# Altium footprint library Component_Footprints.PcbLib: 38 footprints (part 3 of 3)
Each footprint in its own frame and in the unit in brackets; x right, y up, seen from the top. Pads: shape width x height; smd on the part's side, far side on the other; paste and mask are expansions set on the pad; w line width, h text height; cw(c..) or ccw(c..) is an arc to the next point about the centre after c.
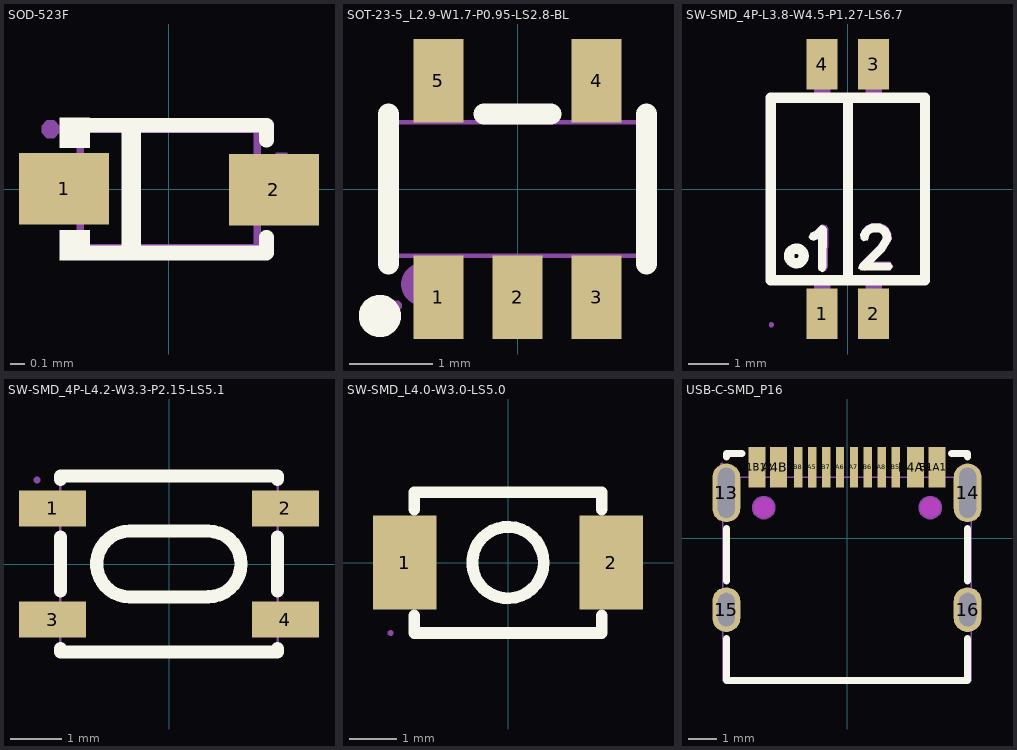
[diagram p2: the footprints below, top view; thin cyan lines are the x and y axes]

## SOD-523F [mil] "L1.2-W0.8-LS1.7-RD"
pads (2):
  rect 24x19 smd: 1(-27.87,0.08) 2(28,-0.19)
Top Overlay:
  region: -21,-11 -25,-11 -29,-11 -29,-19 -21,-19
  region: -21,19 -25,19 -29,19 -29,11 -21,11
  region: -12.51,-16.5 -12.51,16.5 -7.5,16.5 -7.5,-16.5
  lines w3.94: -26,17 26,17 26,13 ; 25.99,-12.84 25.99,-17 -26.01,-17 ; -26.01,-17 -26,-17
Mechanical 6:
  region: 28.5,-7.34 28.5,9.66 31.5,9.66 31.5,-7.34
  region: 22,3.16 38.99,3.16 38.99,0.16 22,0.16
  region: -35.01,4.16 -19,4.16 -19,0.16 -35.01,0.16
Mechanical 15:
  region: 20,-5.85 31.49,-5.85 31.49,5.96 20,5.96
  region: -20,6.1 -31.5,6.1 -31.5,-5.71 -20,-5.71
  region: -29.14,15.91 -29.14,16.89 -30.52,18.27 -32.48,18.27 -33.86,16.89 -33.86,15.91 -33.86,14.93 -32.48,13.55 -30.52,13.55 -29.14,14.93
  lines w2: -23.63,-15.59 -23.63,15.91 23.62,15.91 23.62,-15.59 -23.63,-15.59
3D body "3D_PCB1_2023-02-22.step": height 24.02, standoff 0, extent -31.5,-16 31.5,15.5

## SOT-23-5_L2.9-W1.7-P0.95-LS2.8-BL [mm]
pads (5):
  rect 0.6x1 smd paste+0 mask+0.051: 1(-0.95,-1.3) 2(0,-1.3) 3(0.95,-1.3) 4(0.95,1.3) 5(-0.95,1.3)
Top Overlay:
  circle w0.254: c-1.651,-1.524 r0.127
  lines w0.254: -1.55,-0.9 -1.55,0.9 ; -0.4,0.9 0.4,0.9 ; 1.55,-0.9 1.55,0.9
Mechanical 6:
  circle w0.254: c-1.143,-1.143 r0.127
Mechanical 15:
  region: -1.15,-0.79 -0.75,-0.79 -0.75,-0.96 -1.15,-0.96
  region: -1.15,-0.95 -0.75,-0.95 -0.75,-1.4 -1.15,-1.4
  region: -0.2,-0.79 0.2,-0.79 0.2,-0.96 -0.2,-0.96
  region: -0.2,-0.95 0.2,-0.95 0.2,-1.4 -0.2,-1.4
  region: 0.75,-0.79 1.15,-0.79 1.15,-0.96 0.75,-0.96
  region: 0.75,-0.95 1.15,-0.95 1.15,-1.4 0.75,-1.4
  region: 0.75,0.96 1.15,0.96 1.15,0.79 0.75,0.79
  region: 0.75,1.4 1.15,1.4 1.15,0.95 0.75,0.95
  region: -1.15,0.96 -0.75,0.96 -0.75,0.79 -1.15,0.79
  region: -1.15,1.4 -0.75,1.4 -0.75,0.95 -1.15,0.95
  region: -1.45,-1.34 -1.425,-1.34 -1.39,-1.375 -1.39,-1.425 -1.425,-1.46 -1.45,-1.46 -1.475,-1.46 -1.51,-1.425 -1.51,-1.375 -1.475,-1.34 -1.45,-1.34
  lines w0.051: -1.45,-0.8 -1.45,0.8 1.45,0.8 1.45,-0.8 -1.45,-0.8

## SW-SMD_4P-L3.8-W4.5-P1.27-LS6.7 [mm]
pads (4):
  rect 0.762x1.25 smd paste+0 mask+0.051: 1(-0.635,-3.075) 2(0.635,-3.075) 3(0.635,3.075) 4(-0.635,3.075)
Top Overlay:
  circle w0.254: c-1.27,-1.651 r0.18
  region: -0.815,-1.045 -0.655,-0.885 -0.565,-0.915 -0.525,-0.985 -0.535,-1.945 -0.565,-2.015 -0.635,-2.055 -0.715,-2.005 -0.735,-1.955 -0.735,-1.225 -0.845,-1.275 -0.915,-1.255 -0.965,-1.185 -0.915,-1.085
  region: 0.38,-1.29 0.49,-1.26 0.51,-1.17 0.54,-1.12 0.57,-1.09 0.62,-1.07 0.76,-1.07 0.82,-1.1 0.84,-1.13 0.86,-1.17 0.86,-1.21 0.83,-1.27 0.75,-1.4 0.29,-1.85 0.26,-1.95 0.32,-2.01 0.42,-2.02 1.04,-2.01 1.11,-1.92 1.04,-1.82 0.61,-1.82 0.9,-1.54 1.07,-1.25 1.06,-1.11 0.99,-0.98 0.92,-0.92 0.8,-0.86 0.58,-0.86 0.45,-0.92 0.37,-1.01 0.31,-1.11 0.32,-1.23
  lines w0.254: 0,-2.159 0,2.159 ; -1.9,-2.25 -1.9,2.25 1.9,2.25 1.9,-2.25 -1.9,-2.25
Mechanical 6:
  region: -0.78,-1.03 -0.62,-0.87 -0.53,-0.9 -0.49,-0.97 -0.5,-1.93 -0.53,-2 -0.6,-2.04 -0.68,-1.99 -0.7,-1.94 -0.7,-1.21 -0.81,-1.26 -0.88,-1.24 -0.93,-1.17 -0.88,-1.07
  region: 0.39,-1.27 0.5,-1.24 0.52,-1.15 0.55,-1.1 0.58,-1.07 0.63,-1.05 0.77,-1.05 0.83,-1.08 0.85,-1.11 0.87,-1.15 0.87,-1.19 0.84,-1.25 0.76,-1.38 0.3,-1.83 0.27,-1.93 0.33,-1.99 0.43,-2 1.05,-1.99 1.12,-1.9 1.05,-1.8 0.62,-1.8 0.91,-1.52 1.08,-1.23 1.07,-1.09 1,-0.96 0.93,-0.9 0.81,-0.84 0.59,-0.84 0.46,-0.9 0.38,-0.99 0.32,-1.09 0.33,-1.21
Mechanical 15:
  region: -1.885,-3.29 -1.91,-3.29 -1.945,-3.325 -1.945,-3.375 -1.91,-3.41 -1.885,-3.41 -1.86,-3.41 -1.825,-3.375 -1.825,-3.325 -1.86,-3.29 -1.885,-3.29
  region: 0.435,-2.76 0.435,-2.24 0.835,-2.24 0.835,-2.76
  region: 0.435,-3.35 0.435,-2.75 0.835,-2.75 0.835,-3.35
  region: 0.435,2.24 0.435,2.76 0.835,2.76 0.835,2.24
  region: 0.435,2.75 0.435,3.35 0.835,3.35 0.835,2.75
  region: -0.835,2.24 -0.835,2.76 -0.435,2.76 -0.435,2.24
  region: -0.835,2.75 -0.835,3.35 -0.435,3.35 -0.435,2.75
  region: -0.835,-2.76 -0.835,-2.24 -0.435,-2.24 -0.435,-2.76
  region: -0.835,-3.35 -0.835,-2.75 -0.435,-2.75 -0.435,-3.35
  lines w0.051: -1.885,-2.25 1.885,-2.25 1.885,2.25 -1.885,2.25 -1.885,-2.25

## SW-SMD_4P-L4.2-W3.3-P2.15-LS5.1 [mm]
pads (4):
  rect 1.3x0.7 smd paste+0 mask+0.051: 1(-2.25,1.075) 2(2.25,1.075) 3(-2.25,-1.075) 4(2.25,-1.075)
Top Overlay:
  lines w0.254: -2.1,-1.631 -2.1,-1.7 2.1,-1.7 2.1,-1.631 ; -2.1,-0.519 -2.1,0.519 ; -2.1,1.631 -2.1,1.7 2.1,1.7 2.1,1.631 ; -0.763,0.636 ccw(c-0.763,0) -0.762,-0.635 0.762,-0.635 ; -0.762,0.635 0.762,0.635 cw(c0.757,0) 0.761,-0.634 ; 2.1,-0.519 2.1,0.519
Mechanical 15:
  region: -1.9,1.35 -1.9,0.8 -2.55,0.8 -2.55,1.35
  region: 2.55,1.35 2.55,0.8 1.9,0.8 1.9,1.35
  region: -1.9,-0.8 -1.9,-1.35 -2.55,-1.35 -2.55,-0.8
  region: 2.55,-0.8 2.55,-1.35 1.9,-1.35 1.9,-0.8
  region: -2.49,1.625 -2.49,1.65 -2.525,1.685 -2.575,1.685 -2.61,1.65 -2.61,1.625 -2.61,1.6 -2.575,1.565 -2.525,1.565 -2.49,1.6 -2.49,1.625
  lines w0.051: -2.1,-1.625 2.1,-1.625 2.1,1.625 -2.1,1.625 -2.1,-1.625

## SW-SMD_L4.0-W3.0-LS5.0 [mm]
pads (2):
  rect 1.35x2 smd: 1(-2.2,0) 2(2.2,0)
Top Overlay:
  circle w0.254: c0,0 r0.762
  lines w0.254: -2,-1.131 -2,-1.5 2,-1.5 2,-1.131 ; -2,1.131 -2,1.5 2,1.5 2,1.131
Mechanical 15:
  region: -2.443,-1.5 -2.443,-1.475 -2.478,-1.44 -2.528,-1.44 -2.563,-1.475 -2.563,-1.5 -2.563,-1.525 -2.528,-1.56 -2.478,-1.56 -2.443,-1.525 -2.443,-1.5
  region: -2.503,0.65 -1.803,0.65 -1.803,-0.65 -2.503,-0.65
  region: 1.803,0.65 2.503,0.65 2.503,-0.65 1.803,-0.65
  lines w0.051: -2,-1.5 2,-1.5 2,1.5 -2,1.5 -2,-1.5

## USB-C-SMD_P16 [mil]
pads (16):
  oval 39.4x82.7 hole 23.6 slot 70.9 at 90 deg paste+0 mask+2: 13(-170.1,64.3) 14(170.1,64.3)
  oval 39.4x63 hole 23.6 slot 47.2 at 90 deg paste+0 mask+2: 15(-170.1,-100.3) 16(170.1,-100.3)
  rect 23.6x57.1 smd paste+0 mask+2: A1B12(-127,100.3) A4B9(-96.5,100.3) B1A12(126.8,100.3) B4A9(96.5,100.3)
  rect 11.8x57.1 smd paste+0 mask+2: A5(-49.2,100.3) A6(-9.8,100.3) A7(9.8,100.3) A8(49.2,100.3) B5(68.9,100.3) B6(29.5,100.3) B7(-29.5,100.3) B8(-68.9,100.3)
Top Overlay:
  lines w10: -170,-140.9 -170,-200 170,-200 170,-140.9 ; -170,-59.7 -170,13.8 ; -170,114.7 -170,120 -147.9,120 ; 147.7,120 170,120 170,114.7 ; 170,-59.7 170,13.8
Keep-Out Layer:
  board cut-out: 117.3,57.2 114.56,57.2 109.48,55.1 105.6,51.22 103.5,46.14 103.5,40.66 105.6,35.58 109.48,31.7 114.56,29.6 117.3,29.6 120.04,29.6 125.12,31.7 129,35.58 131.1,40.66 131.1,46.14 129,51.22 125.12,55.1 120.04,57.2 117.3,57.2
  board cut-out: -117.3,57.2 -120.05,57.2 -125.12,55.1 -129,51.22 -131.1,46.14 -131.1,40.66 -129,35.58 -125.12,31.7 -120.05,29.6 -117.3,29.6 -114.56,29.6 -109.48,31.7 -105.6,35.58 -103.5,40.66 -103.5,46.14 -105.6,51.22 -109.48,55.1 -114.56,57.2 -117.3,57.2
Mechanical 1:
  circle w0.2: c117.3,43.4 r13.8
  circle w0.2: c-117.3,43.4 r13.8
Mechanical 15:
  circle w2: c117.3,43.4 r6.9
  circle w2: c-117.3,43.4 r6.9
  region: 117.3,59.7 114.06,59.7 108.07,57.22 103.48,52.63 101,46.64 101,40.16 103.48,34.17 108.07,29.58 114.06,27.1 117.3,27.1 120.54,27.1 126.53,29.58 131.12,34.17 133.6,40.16 133.6,46.64 131.12,52.63 126.53,57.22 120.54,59.7 117.3,59.7
  region: -117.3,59.7 -120.54,59.7 -126.53,57.22 -131.12,52.63 -133.6,46.64 -133.6,40.16 -131.12,34.17 -126.53,29.58 -120.54,27.1 -117.3,27.1 -114.06,27.1 -108.07,29.58 -103.48,34.17 -101,40.16 -101,46.64 -103.48,52.63 -108.07,57.22 -114.06,59.7 -117.3,59.7
  region: -176,106.6 -176.99,106.6 -178.4,105.19 -178.4,103.21 -176.99,101.8 -176,101.8 -175.01,101.8 -173.6,103.21 -173.6,105.19 -175.01,106.6 -176,106.6
  region: -72.8,104.2 -65,104.2 -65,72.7 -72.8,72.7
  region: -53.5,103.6 -45.7,103.6 -45.7,72.1 -53.5,72.1
  region: -33.5,104.2 -25.6,104.2 -25.6,72.7 -33.5,72.7
  region: -13.8,104.2 -5.9,104.2 -5.9,72.7 -13.8,72.7
  region: 5.9,104.2 13.8,104.2 13.8,72.7 5.9,72.7
  region: 25.6,104.2 33.5,104.2 33.5,72.7 25.6,72.7
  region: 45.3,104.2 53.2,104.2 53.2,72.7 45.3,72.7
  region: 65,104.2 72.8,104.2 72.8,72.7 65,72.7
  region: -134.8,104.2 -119.1,104.2 -119.1,72.7 -134.8,72.7
  region: -104.3,104.2 -88.6,104.2 -88.6,72.7 -104.3,72.7
  region: 88.6,104.2 104.3,104.2 104.3,72.7 88.6,72.7
  region: 118.9,104.2 134.6,104.2 134.6,72.7 118.9,72.7
  region: -176,84.9 -164.2,84.9 -164.2,43.6 -176,43.6
  region: 164.2,84.9 176,84.9 176,43.6 164.2,43.6
  region: -176,-84.5 -164.2,-84.5 -164.2,-116 -176,-116
  region: 164.2,-84.5 176,-84.5 176,-116 164.2,-116
  lines w2: -175,-200.8 175.4,-200.8 175.4,86.6 -175,86.6 -175,-200.8